# Altium schematic symbol library RPi_connector_board.SchLib: 5 symbols
Pins are listed as number, name and electrical type; pins without a type are passive.

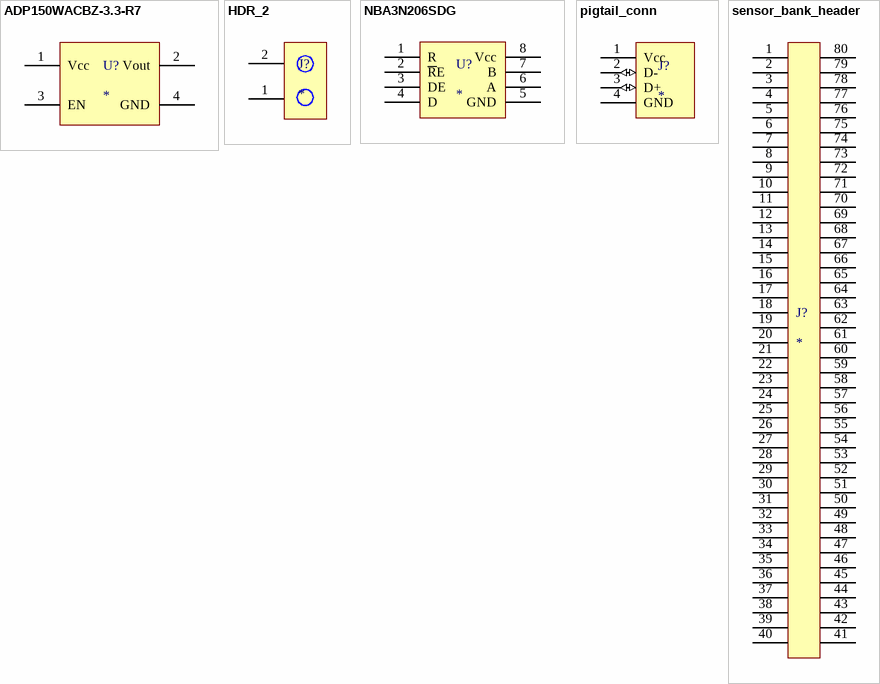
[diagram p0: symbols ADP150WACBZ-3.3-R7 to sensor_bank_header]

## ADP150WACBZ-3.3-R7
designator U?
/ Linear Voltage Regulator IC Positive Fixed 1 Output 150mA 4-WLCSP (0.76x0.76)
footprint ADP150WACBZ-3.3-R7
pins: 1 Vcc, 2 Vout, 3 EN, 4 GND

## HDR_2
designator J?
2-pin 0.1" header
footprint 2-POS_HEADER (2 pin header 2.54 mm pitch)
pins: 1, 2

## NBA3N206SDG
designator U?
1/1 Transceiver Half LVDS, Multipoint 8-SOIC
footprint 8-SOIC
pins: 1 R, 2 ~{R}E, 3 DE, 4 D, 5 GND, 6 A, 7 B, 8 Vcc

## pigtail_conn
designator J?
Earpiece board connector
footprint 4-pos RA Thru-hole (Earpiece differential signalling connector)
pins: 1 Vcc (power), 2 D- (io), 3 D+ (io), 4 GND (power)

## sensor_bank_header
designator J?
Female pin header for sensors
pins: 1, 2, 3, 4, 5, 6, 7, 8, 9, 10, 11, 12, 13, 14, 15, 16, 17, 18, 19, 20, 21, 22, 23, 24, 25, 26, 27, 28, 29, 30, 31, 32, 33, 34, 35, 36, 37, 38, 39, 40, 41, 42, 43, 44, 45, 46, 47, 48, 49, 50, 51, 52, 53, 54, 55, 56, 57, 58, 59, 60, 61, 62, 63, 64, 65, 66, 67, 68, 69, 70, 71, 72, 73, 74, 75, 76, 77, 78, 79, 80